# Altium schematic symbol library TBP05R1-762-02BE.SchLib: 1 symbol
Pins are listed as number, name and electrical type; pins without a type are passive.

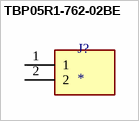
[diagram p0: symbol TBP05R1-762-02BE]

## TBP05R1-762-02BE
designator J?
Terminal Block; MP: TBP05R1-762-02BE; Package: None; Availability: Unavailable; Price: None; Value: *
footprint CUI_TBP05R1-762-02BE
footprint Model Name (Footprint not found)
pins: 1, 2